# Altium integrated library Microchip Power Mgt Line Regulator.IntLib: 1014 symbols (part 10 of 22)
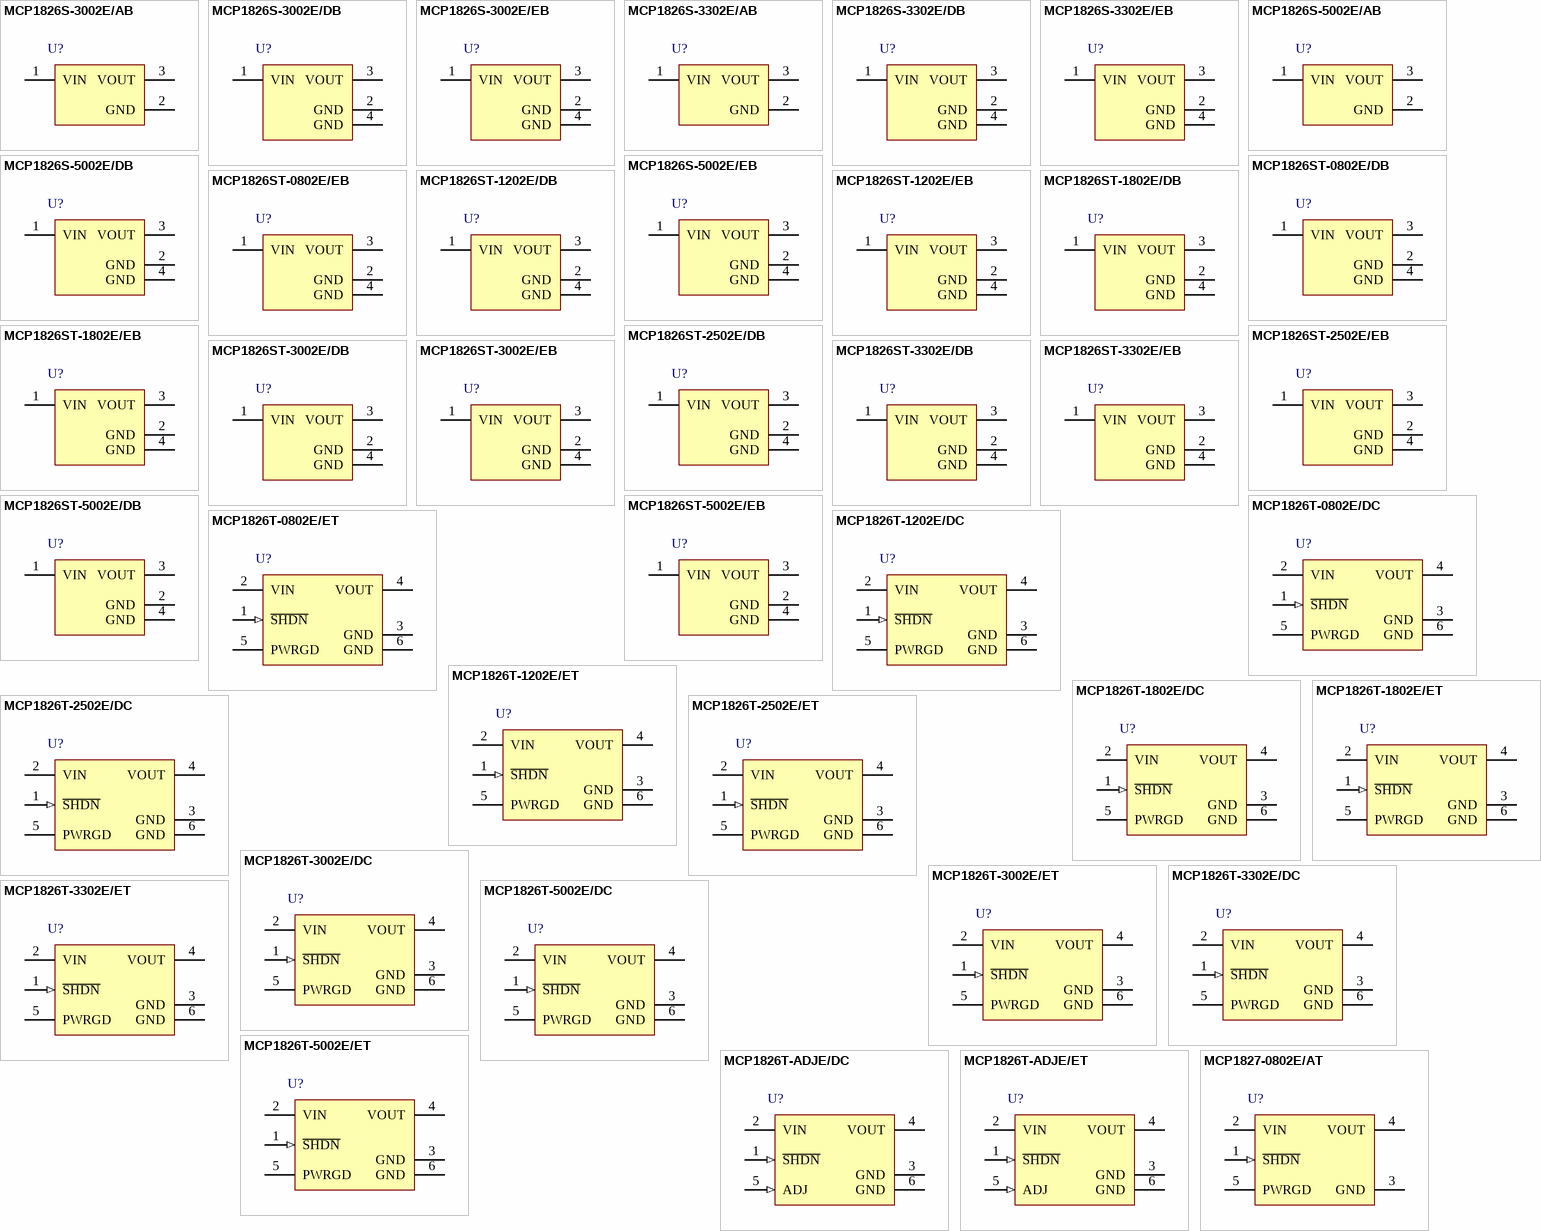
[diagram p34: symbols MCP1826S-3002E/AB to MCP1827-0802E/AT]

## MCP1826T-2502E/ET
designator U?
1000 mA, Low Voltage, Low Quiescent Current LDO Regulator, 5-Pin DDPAK, Extended Temperature, Tape and Reel; Published: 29-Jan-2009; DatasheetVersion: revA, Aug-2007; PackageVersion: revAW, Oct-2008; PackageReference: DDPAK-ET5; Publisher: Altium Limited; PackageDescription: 5-Lead Plastic (ET) [DDPAK]; ComponentLink1Description: Manufacturer Link; ComponentLink1URL: http://www.microchip.com; ComponentLink2Description: Datasheet; ComponentLink2URL: http://ww1.microchip.com/downloads/en/DeviceDoc/22057a.pdf; ComponentLink3Description: Packaging Specification; ComponentLink3URL: http://ww1.microchip.com/downloads/en/PackagingSpec/00049AW.pdf
footprint DDPAK-ET5_N (D2-PAK, 6-Leads, Body 9x10.2mm, Pitch 1.7mm, Lead Span 14.9mm, IPC Medium Density)
footprint DDPAK-ET5_L (D2-PAK, 6-Leads, Body 9x10.2mm, Pitch 1.7mm, Lead Span 14.9mm, IPC High Density)
footprint DDPAK-ET5_M (D2-PAK, 6-Leads, Body 9x10.2mm, Pitch 1.7mm, Lead Span 14.9mm, IPC Low Density)
pins: 1 ~{SHDN} (in), 2 VIN (power), 3 GND (power), 4 VOUT (power), 5 PWRGD (power), 6 GND (power)

## MCP1826T-3002E/DC
designator U?
1000 mA, Low Voltage, Low Quiescent Current LDO Regulator, 5-Pin SOT-223, Extended Temperature, Tape and Reel; Published: 29-Jan-2009; DatasheetVersion: revA, Aug-2007; PackageVersion: revAW, Oct-2008; PackageReference: SOT-223-DC5; Publisher: Altium Limited; PackageDescription: 5-Lead Plastic Small Outline Transistor (DC) [SOT-223]; ComponentLink1Description: Manufacturer Link; ComponentLink1URL: http://www.microchip.com; ComponentLink2Description: Datasheet; ComponentLink2URL: http://ww1.microchip.com/downloads/en/DeviceDoc/22057a.pdf; ComponentLink3Description: Packaging Specification; ComponentLink3URL: http://ww1.microchip.com/downloads/en/PackagingSpec/00049AW.pdf
footprint SOT-223-DC5_N (SOT223, 6-Leads, Body 6.5x3.5mm, Pitch 1.27mm, Lead Span 7mm, IPC Medium Density)
footprint SOT-223-DC5_L (SOT223, 6-Leads, Body 6.5x3.5mm, Pitch 1.27mm, Lead Span 7mm, IPC High Density)
footprint SOT-223-DC5_M (SOT223, 6-Leads, Body 6.5x3.5mm, Pitch 1.27mm, Lead Span 7mm, IPC Low Density)
pins: 1 ~{SHDN} (in), 2 VIN (power), 3 GND (power), 4 VOUT (power), 5 PWRGD (power), 6 GND (power)

## MCP1826T-3002E/ET
designator U?
1000 mA, Low Voltage, Low Quiescent Current LDO Regulator, 5-Pin DDPAK, Extended Temperature, Tape and Reel; Published: 29-Jan-2009; DatasheetVersion: revA, Aug-2007; PackageVersion: revAW, Oct-2008; PackageReference: DDPAK-ET5; Publisher: Altium Limited; PackageDescription: 5-Lead Plastic (ET) [DDPAK]; ComponentLink1Description: Manufacturer Link; ComponentLink1URL: http://www.microchip.com; ComponentLink2Description: Datasheet; ComponentLink2URL: http://ww1.microchip.com/downloads/en/DeviceDoc/22057a.pdf; ComponentLink3Description: Packaging Specification; ComponentLink3URL: http://ww1.microchip.com/downloads/en/PackagingSpec/00049AW.pdf
footprint DDPAK-ET5_N (D2-PAK, 6-Leads, Body 9x10.2mm, Pitch 1.7mm, Lead Span 14.9mm, IPC Medium Density)
footprint DDPAK-ET5_L (D2-PAK, 6-Leads, Body 9x10.2mm, Pitch 1.7mm, Lead Span 14.9mm, IPC High Density)
footprint DDPAK-ET5_M (D2-PAK, 6-Leads, Body 9x10.2mm, Pitch 1.7mm, Lead Span 14.9mm, IPC Low Density)
pins: 1 ~{SHDN} (in), 2 VIN (power), 3 GND (power), 4 VOUT (power), 5 PWRGD (power), 6 GND (power)

## MCP1826T-3302E/DC
designator U?
1000 mA, Low Voltage, Low Quiescent Current LDO Regulator, 5-Pin SOT-223, Extended Temperature, Tape and Reel; Published: 29-Jan-2009; DatasheetVersion: revA, Aug-2007; PackageVersion: revAW, Oct-2008; PackageReference: SOT-223-DC5; Publisher: Altium Limited; PackageDescription: 5-Lead Plastic Small Outline Transistor (DC) [SOT-223]; ComponentLink1Description: Manufacturer Link; ComponentLink1URL: http://www.microchip.com; ComponentLink2Description: Datasheet; ComponentLink2URL: http://ww1.microchip.com/downloads/en/DeviceDoc/22057a.pdf; ComponentLink3Description: Packaging Specification; ComponentLink3URL: http://ww1.microchip.com/downloads/en/PackagingSpec/00049AW.pdf
footprint SOT-223-DC5_N (SOT223, 6-Leads, Body 6.5x3.5mm, Pitch 1.27mm, Lead Span 7mm, IPC Medium Density)
footprint SOT-223-DC5_L (SOT223, 6-Leads, Body 6.5x3.5mm, Pitch 1.27mm, Lead Span 7mm, IPC High Density)
footprint SOT-223-DC5_M (SOT223, 6-Leads, Body 6.5x3.5mm, Pitch 1.27mm, Lead Span 7mm, IPC Low Density)
pins: 1 ~{SHDN} (in), 2 VIN (power), 3 GND (power), 4 VOUT (power), 5 PWRGD (power), 6 GND (power)

## MCP1826T-3302E/ET
designator U?
1000 mA, Low Voltage, Low Quiescent Current LDO Regulator, 5-Pin DDPAK, Extended Temperature, Tape and Reel; Published: 29-Jan-2009; DatasheetVersion: revA, Aug-2007; PackageVersion: revAW, Oct-2008; PackageReference: DDPAK-ET5; Publisher: Altium Limited; PackageDescription: 5-Lead Plastic (ET) [DDPAK]; ComponentLink1Description: Manufacturer Link; ComponentLink1URL: http://www.microchip.com; ComponentLink2Description: Datasheet; ComponentLink2URL: http://ww1.microchip.com/downloads/en/DeviceDoc/22057a.pdf; ComponentLink3Description: Packaging Specification; ComponentLink3URL: http://ww1.microchip.com/downloads/en/PackagingSpec/00049AW.pdf
footprint DDPAK-ET5_N (D2-PAK, 6-Leads, Body 9x10.2mm, Pitch 1.7mm, Lead Span 14.9mm, IPC Medium Density)
footprint DDPAK-ET5_L (D2-PAK, 6-Leads, Body 9x10.2mm, Pitch 1.7mm, Lead Span 14.9mm, IPC High Density)
footprint DDPAK-ET5_M (D2-PAK, 6-Leads, Body 9x10.2mm, Pitch 1.7mm, Lead Span 14.9mm, IPC Low Density)
pins: 1 ~{SHDN} (in), 2 VIN (power), 3 GND (power), 4 VOUT (power), 5 PWRGD (power), 6 GND (power)

## MCP1826T-5002E/DC
designator U?
1000 mA, Low Voltage, Low Quiescent Current LDO Regulator, 5-Pin SOT-223, Extended Temperature, Tape and Reel; Published: 29-Jan-2009; DatasheetVersion: revA, Aug-2007; PackageVersion: revAW, Oct-2008; PackageReference: SOT-223-DC5; Publisher: Altium Limited; PackageDescription: 5-Lead Plastic Small Outline Transistor (DC) [SOT-223]; ComponentLink1Description: Manufacturer Link; ComponentLink1URL: http://www.microchip.com; ComponentLink2Description: Datasheet; ComponentLink2URL: http://ww1.microchip.com/downloads/en/DeviceDoc/22057a.pdf; ComponentLink3Description: Packaging Specification; ComponentLink3URL: http://ww1.microchip.com/downloads/en/PackagingSpec/00049AW.pdf
footprint SOT-223-DC5_N (SOT223, 6-Leads, Body 6.5x3.5mm, Pitch 1.27mm, Lead Span 7mm, IPC Medium Density)
footprint SOT-223-DC5_L (SOT223, 6-Leads, Body 6.5x3.5mm, Pitch 1.27mm, Lead Span 7mm, IPC High Density)
footprint SOT-223-DC5_M (SOT223, 6-Leads, Body 6.5x3.5mm, Pitch 1.27mm, Lead Span 7mm, IPC Low Density)
pins: 1 ~{SHDN} (in), 2 VIN (power), 3 GND (power), 4 VOUT (power), 5 PWRGD (power), 6 GND (power)

## MCP1826T-5002E/ET
designator U?
1000 mA, Low Voltage, Low Quiescent Current LDO Regulator, 5-Pin DDPAK, Extended Temperature, Tape and Reel; Published: 29-Jan-2009; DatasheetVersion: revA, Aug-2007; PackageVersion: revAW, Oct-2008; PackageReference: DDPAK-ET5; Publisher: Altium Limited; PackageDescription: 5-Lead Plastic (ET) [DDPAK]; ComponentLink1Description: Manufacturer Link; ComponentLink1URL: http://www.microchip.com; ComponentLink2Description: Datasheet; ComponentLink2URL: http://ww1.microchip.com/downloads/en/DeviceDoc/22057a.pdf; ComponentLink3Description: Packaging Specification; ComponentLink3URL: http://ww1.microchip.com/downloads/en/PackagingSpec/00049AW.pdf
footprint DDPAK-ET5_N (D2-PAK, 6-Leads, Body 9x10.2mm, Pitch 1.7mm, Lead Span 14.9mm, IPC Medium Density)
footprint DDPAK-ET5_L (D2-PAK, 6-Leads, Body 9x10.2mm, Pitch 1.7mm, Lead Span 14.9mm, IPC High Density)
footprint DDPAK-ET5_M (D2-PAK, 6-Leads, Body 9x10.2mm, Pitch 1.7mm, Lead Span 14.9mm, IPC Low Density)
pins: 1 ~{SHDN} (in), 2 VIN (power), 3 GND (power), 4 VOUT (power), 5 PWRGD (power), 6 GND (power)

## MCP1826T-ADJE/DC
designator U?
1000 mA, Low Voltage, Low Quiescent Current LDO Regulator, 5-Pin SOT-223, Extended Temperature, Tape and Reel; Published: 29-Jan-2009; DatasheetVersion: revA, Aug-2007; PackageVersion: revAW, Oct-2008; PackageReference: SOT-223-DC5; Publisher: Altium Limited; PackageDescription: 5-Lead Plastic Small Outline Transistor (DC) [SOT-223]; ComponentLink1Description: Manufacturer Link; ComponentLink1URL: http://www.microchip.com; ComponentLink2Description: Datasheet; ComponentLink2URL: http://ww1.microchip.com/downloads/en/DeviceDoc/22057a.pdf; ComponentLink3Description: Packaging Specification; ComponentLink3URL: http://ww1.microchip.com/downloads/en/PackagingSpec/00049AW.pdf
footprint SOT-223-DC5_N (SOT223, 6-Leads, Body 6.5x3.5mm, Pitch 1.27mm, Lead Span 7mm, IPC Medium Density)
footprint SOT-223-DC5_L (SOT223, 6-Leads, Body 6.5x3.5mm, Pitch 1.27mm, Lead Span 7mm, IPC High Density)
footprint SOT-223-DC5_M (SOT223, 6-Leads, Body 6.5x3.5mm, Pitch 1.27mm, Lead Span 7mm, IPC Low Density)
pins: 1 ~{SHDN} (in), 2 VIN (power), 3 GND (power), 4 VOUT (power), 5 ADJ (in), 6 GND (power)

## MCP1826T-ADJE/ET
designator U?
1000 mA, Low Voltage, Low Quiescent Current LDO Regulator, 5-Pin DDPAK, Extended Temperature, Tape and Reel; Published: 29-Jan-2009; DatasheetVersion: revA, Aug-2007; PackageVersion: revAW, Oct-2008; PackageReference: DDPAK-ET5; Publisher: Altium Limited; PackageDescription: 5-Lead Plastic (ET) [DDPAK]; ComponentLink1Description: Manufacturer Link; ComponentLink1URL: http://www.microchip.com; ComponentLink2Description: Datasheet; ComponentLink2URL: http://ww1.microchip.com/downloads/en/DeviceDoc/22057a.pdf; ComponentLink3Description: Packaging Specification; ComponentLink3URL: http://ww1.microchip.com/downloads/en/PackagingSpec/00049AW.pdf
footprint DDPAK-ET5_N (D2-PAK, 6-Leads, Body 9x10.2mm, Pitch 1.7mm, Lead Span 14.9mm, IPC Medium Density)
footprint DDPAK-ET5_L (D2-PAK, 6-Leads, Body 9x10.2mm, Pitch 1.7mm, Lead Span 14.9mm, IPC High Density)
footprint DDPAK-ET5_M (D2-PAK, 6-Leads, Body 9x10.2mm, Pitch 1.7mm, Lead Span 14.9mm, IPC Low Density)
pins: 1 ~{SHDN} (in), 2 VIN (power), 3 GND (power), 4 VOUT (power), 5 ADJ (in), 6 GND (power)

## MCP1827-0802E/AT
designator U?
1.5A, Low Voltage, Low Quiescent Current LDO Regulator, 5-Pin TO-220, Extended Temperature; Published: 29-Jan-2009; DatasheetVersion: revC, Feb-2007; PackageVersion: revAW, Oct-2008; PackageReference: TO-220-AT5; Publisher: Altium Limited; PackageDescription: 5-Lead Plastic Transistor Outline (AT) [TO-220]; ComponentLink1Description: Manufacturer Link; ComponentLink1URL: http://www.microchip.com; ComponentLink2Description: Datasheet; ComponentLink2URL: http://ww1.microchip.com/downloads/en/DeviceDoc/22001c.pdf; ComponentLink3Description: Packaging Specification; ComponentLink3URL: http://ww1.microchip.com/downloads/en/PackagingSpec/00049AW.pdf
footprint TO-220-AT5 (TO, Thru-Hole, Vertical, Heatsink Mounted; 5 In-Line Leads; Pitch 1.70 mm)
pins: 1 ~{SHDN} (in), 2 VIN (power), 3 GND (power), 4 VOUT (power), 5 PWRGD (power)

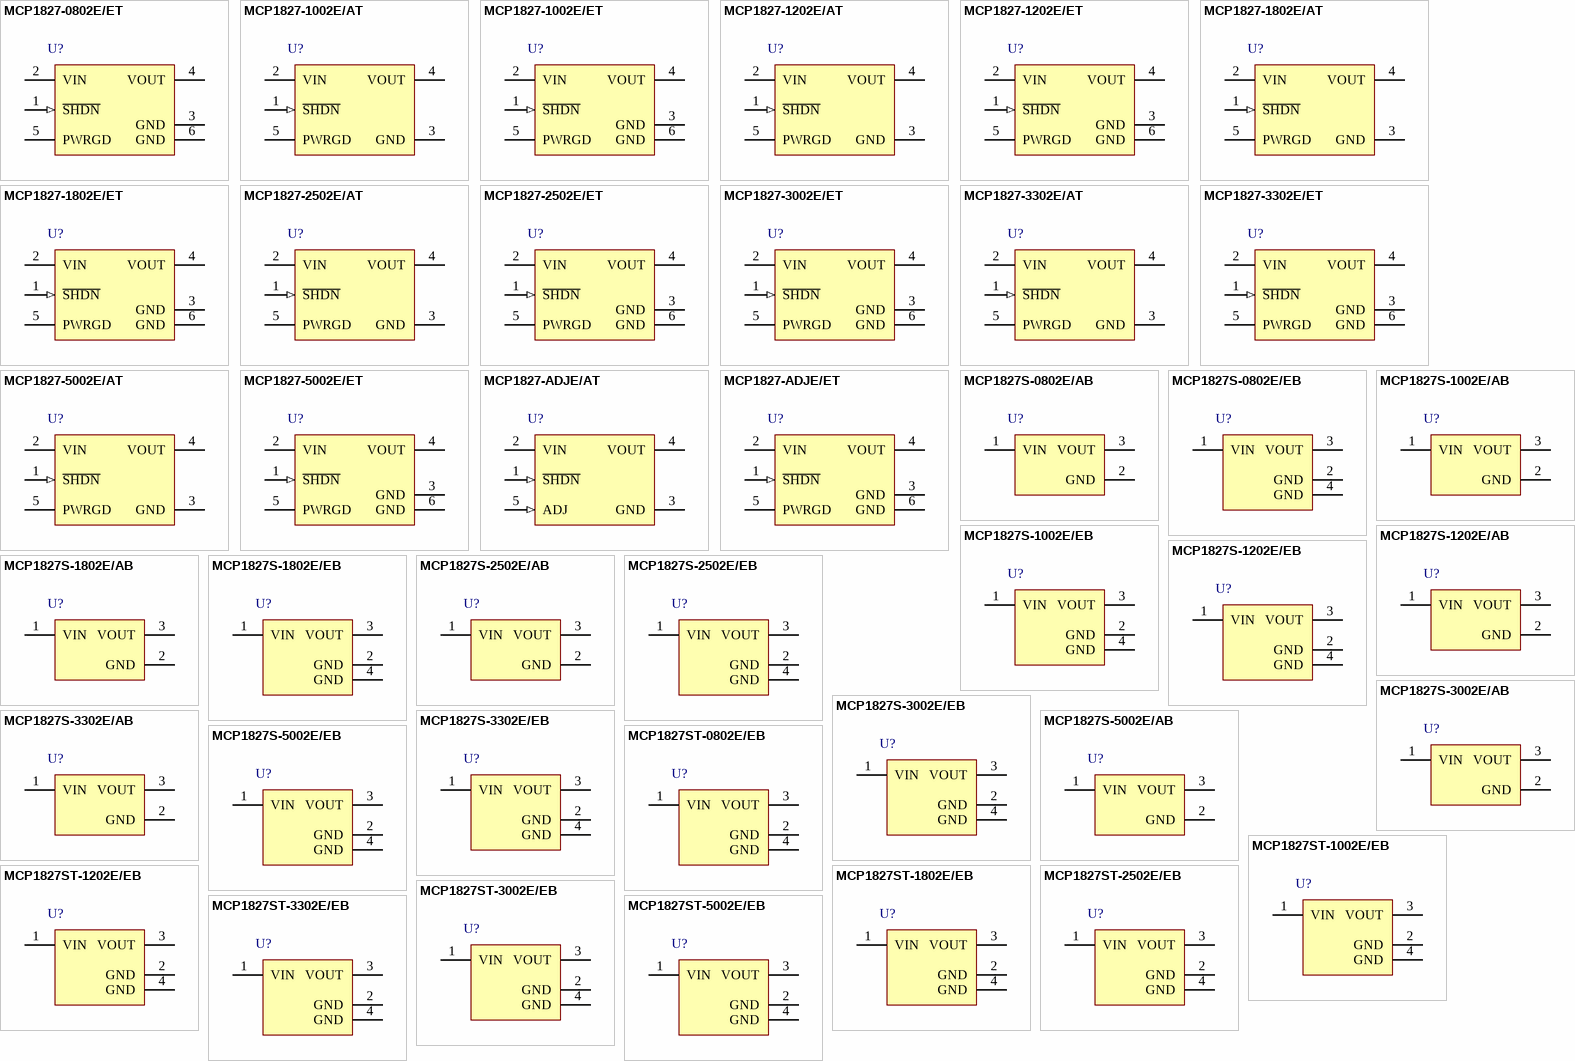
[diagram p11: symbols MCP1827-0802E/ET to MCP1827ST-5002E/EB]

## MCP1827-0802E/ET
designator U?
1.5A, Low Voltage, Low Quiescent Current LDO Regulator, 5-Pin DDPAK, Extended Temperature; Published: 29-Jan-2009; DatasheetVersion: revC, Feb-2007; PackageVersion: revAW, Oct-2008; PackageReference: DDPAK-ET5; Publisher: Altium Limited; PackageDescription: 5-Lead Plastic (ET) [DDPAK]; ComponentLink1Description: Manufacturer Link; ComponentLink1URL: http://www.microchip.com; ComponentLink2Description: Datasheet; ComponentLink2URL: http://ww1.microchip.com/downloads/en/DeviceDoc/22001c.pdf; ComponentLink3Description: Packaging Specification; ComponentLink3URL: http://ww1.microchip.com/downloads/en/PackagingSpec/00049AW.pdf
footprint DDPAK-ET5_N (D2-PAK, 6-Leads, Body 9x10.2mm, Pitch 1.7mm, Lead Span 14.9mm, IPC Medium Density)
footprint DDPAK-ET5_L (D2-PAK, 6-Leads, Body 9x10.2mm, Pitch 1.7mm, Lead Span 14.9mm, IPC High Density)
footprint DDPAK-ET5_M (D2-PAK, 6-Leads, Body 9x10.2mm, Pitch 1.7mm, Lead Span 14.9mm, IPC Low Density)
pins: 1 ~{SHDN} (in), 2 VIN (power), 3 GND (power), 4 VOUT (power), 5 PWRGD (power), 6 GND (power)

## MCP1827-1002E/AT
designator U?
1.5A, Low Voltage, Low Quiescent Current LDO Regulator, 5-Pin TO-220, Extended Temperature; Published: 29-Jan-2009; DatasheetVersion: revC, Feb-2007; PackageVersion: revAW, Oct-2008; PackageReference: TO-220-AT5; Publisher: Altium Limited; PackageDescription: 5-Lead Plastic Transistor Outline (AT) [TO-220]; ComponentLink1Description: Manufacturer Link; ComponentLink1URL: http://www.microchip.com; ComponentLink2Description: Datasheet; ComponentLink2URL: http://ww1.microchip.com/downloads/en/DeviceDoc/22001c.pdf; ComponentLink3Description: Packaging Specification; ComponentLink3URL: http://ww1.microchip.com/downloads/en/PackagingSpec/00049AW.pdf
footprint TO-220-AT5 (TO, Thru-Hole, Vertical, Heatsink Mounted; 5 In-Line Leads; Pitch 1.70 mm)
pins: 1 ~{SHDN} (in), 2 VIN (power), 3 GND (power), 4 VOUT (power), 5 PWRGD (power)

## MCP1827-1002E/ET
designator U?
1.5A, Low Voltage, Low Quiescent Current LDO Regulator, 5-Pin DDPAK, Extended Temperature; Published: 29-Jan-2009; DatasheetVersion: revC, Feb-2007; PackageVersion: revAW, Oct-2008; PackageReference: DDPAK-ET5; Publisher: Altium Limited; PackageDescription: 5-Lead Plastic (ET) [DDPAK]; ComponentLink1Description: Manufacturer Link; ComponentLink1URL: http://www.microchip.com; ComponentLink2Description: Datasheet; ComponentLink2URL: http://ww1.microchip.com/downloads/en/DeviceDoc/22001c.pdf; ComponentLink3Description: Packaging Specification; ComponentLink3URL: http://ww1.microchip.com/downloads/en/PackagingSpec/00049AW.pdf
footprint DDPAK-ET5_N (D2-PAK, 6-Leads, Body 9x10.2mm, Pitch 1.7mm, Lead Span 14.9mm, IPC Medium Density)
footprint DDPAK-ET5_L (D2-PAK, 6-Leads, Body 9x10.2mm, Pitch 1.7mm, Lead Span 14.9mm, IPC High Density)
footprint DDPAK-ET5_M (D2-PAK, 6-Leads, Body 9x10.2mm, Pitch 1.7mm, Lead Span 14.9mm, IPC Low Density)
pins: 1 ~{SHDN} (in), 2 VIN (power), 3 GND (power), 4 VOUT (power), 5 PWRGD (power), 6 GND (power)

## MCP1827-1202E/AT
designator U?
1.5A, Low Voltage, Low Quiescent Current LDO Regulator, 5-Pin TO-220, Extended Temperature; Published: 29-Jan-2009; DatasheetVersion: revC, Feb-2007; PackageVersion: revAW, Oct-2008; PackageReference: TO-220-AT5; Publisher: Altium Limited; PackageDescription: 5-Lead Plastic Transistor Outline (AT) [TO-220]; ComponentLink1Description: Manufacturer Link; ComponentLink1URL: http://www.microchip.com; ComponentLink2Description: Datasheet; ComponentLink2URL: http://ww1.microchip.com/downloads/en/DeviceDoc/22001c.pdf; ComponentLink3Description: Packaging Specification; ComponentLink3URL: http://ww1.microchip.com/downloads/en/PackagingSpec/00049AW.pdf
footprint TO-220-AT5 (TO, Thru-Hole, Vertical, Heatsink Mounted; 5 In-Line Leads; Pitch 1.70 mm)
pins: 1 ~{SHDN} (in), 2 VIN (power), 3 GND (power), 4 VOUT (power), 5 PWRGD (power)

## MCP1827-1202E/ET
designator U?
1.5A, Low Voltage, Low Quiescent Current LDO Regulator, 5-Pin DDPAK, Extended Temperature; Published: 29-Jan-2009; DatasheetVersion: revC, Feb-2007; PackageVersion: revAW, Oct-2008; PackageReference: DDPAK-ET5; Publisher: Altium Limited; PackageDescription: 5-Lead Plastic (ET) [DDPAK]; ComponentLink1Description: Manufacturer Link; ComponentLink1URL: http://www.microchip.com; ComponentLink2Description: Datasheet; ComponentLink2URL: http://ww1.microchip.com/downloads/en/DeviceDoc/22001c.pdf; ComponentLink3Description: Packaging Specification; ComponentLink3URL: http://ww1.microchip.com/downloads/en/PackagingSpec/00049AW.pdf
footprint DDPAK-ET5_N (D2-PAK, 6-Leads, Body 9x10.2mm, Pitch 1.7mm, Lead Span 14.9mm, IPC Medium Density)
footprint DDPAK-ET5_L (D2-PAK, 6-Leads, Body 9x10.2mm, Pitch 1.7mm, Lead Span 14.9mm, IPC High Density)
footprint DDPAK-ET5_M (D2-PAK, 6-Leads, Body 9x10.2mm, Pitch 1.7mm, Lead Span 14.9mm, IPC Low Density)
pins: 1 ~{SHDN} (in), 2 VIN (power), 3 GND (power), 4 VOUT (power), 5 PWRGD (power), 6 GND (power)

## MCP1827-1802E/AT
designator U?
1.5A, Low Voltage, Low Quiescent Current LDO Regulator, 5-Pin TO-220, Extended Temperature; Published: 29-Jan-2009; DatasheetVersion: revC, Feb-2007; PackageVersion: revAW, Oct-2008; PackageReference: TO-220-AT5; Publisher: Altium Limited; PackageDescription: 5-Lead Plastic Transistor Outline (AT) [TO-220]; ComponentLink1Description: Manufacturer Link; ComponentLink1URL: http://www.microchip.com; ComponentLink2Description: Datasheet; ComponentLink2URL: http://ww1.microchip.com/downloads/en/DeviceDoc/22001c.pdf; ComponentLink3Description: Packaging Specification; ComponentLink3URL: http://ww1.microchip.com/downloads/en/PackagingSpec/00049AW.pdf
footprint TO-220-AT5 (TO, Thru-Hole, Vertical, Heatsink Mounted; 5 In-Line Leads; Pitch 1.70 mm)
pins: 1 ~{SHDN} (in), 2 VIN (power), 3 GND (power), 4 VOUT (power), 5 PWRGD (power)

## MCP1827-1802E/ET
designator U?
1.5A, Low Voltage, Low Quiescent Current LDO Regulator, 5-Pin DDPAK, Extended Temperature; Published: 29-Jan-2009; DatasheetVersion: revC, Feb-2007; PackageVersion: revAW, Oct-2008; PackageReference: DDPAK-ET5; Publisher: Altium Limited; PackageDescription: 5-Lead Plastic (ET) [DDPAK]; ComponentLink1Description: Manufacturer Link; ComponentLink1URL: http://www.microchip.com; ComponentLink2Description: Datasheet; ComponentLink2URL: http://ww1.microchip.com/downloads/en/DeviceDoc/22001c.pdf; ComponentLink3Description: Packaging Specification; ComponentLink3URL: http://ww1.microchip.com/downloads/en/PackagingSpec/00049AW.pdf
footprint DDPAK-ET5_N (D2-PAK, 6-Leads, Body 9x10.2mm, Pitch 1.7mm, Lead Span 14.9mm, IPC Medium Density)
footprint DDPAK-ET5_L (D2-PAK, 6-Leads, Body 9x10.2mm, Pitch 1.7mm, Lead Span 14.9mm, IPC High Density)
footprint DDPAK-ET5_M (D2-PAK, 6-Leads, Body 9x10.2mm, Pitch 1.7mm, Lead Span 14.9mm, IPC Low Density)
pins: 1 ~{SHDN} (in), 2 VIN (power), 3 GND (power), 4 VOUT (power), 5 PWRGD (power), 6 GND (power)

## MCP1827-2502E/AT
designator U?
1.5A, Low Voltage, Low Quiescent Current LDO Regulator, 5-Pin TO-220, Extended Temperature; Published: 29-Jan-2009; DatasheetVersion: revC, Feb-2007; PackageVersion: revAW, Oct-2008; PackageReference: TO-220-AT5; Publisher: Altium Limited; PackageDescription: 5-Lead Plastic Transistor Outline (AT) [TO-220]; ComponentLink1Description: Manufacturer Link; ComponentLink1URL: http://www.microchip.com; ComponentLink2Description: Datasheet; ComponentLink2URL: http://ww1.microchip.com/downloads/en/DeviceDoc/22001c.pdf; ComponentLink3Description: Packaging Specification; ComponentLink3URL: http://ww1.microchip.com/downloads/en/PackagingSpec/00049AW.pdf
footprint TO-220-AT5 (TO, Thru-Hole, Vertical, Heatsink Mounted; 5 In-Line Leads; Pitch 1.70 mm)
pins: 1 ~{SHDN} (in), 2 VIN (power), 3 GND (power), 4 VOUT (power), 5 PWRGD (power)

## MCP1827-2502E/ET
designator U?
1.5A, Low Voltage, Low Quiescent Current LDO Regulator, 5-Pin DDPAK, Extended Temperature; Published: 29-Jan-2009; DatasheetVersion: revC, Feb-2007; PackageVersion: revAW, Oct-2008; PackageReference: DDPAK-ET5; Publisher: Altium Limited; PackageDescription: 5-Lead Plastic (ET) [DDPAK]; ComponentLink1Description: Manufacturer Link; ComponentLink1URL: http://www.microchip.com; ComponentLink2Description: Datasheet; ComponentLink2URL: http://ww1.microchip.com/downloads/en/DeviceDoc/22001c.pdf; ComponentLink3Description: Packaging Specification; ComponentLink3URL: http://ww1.microchip.com/downloads/en/PackagingSpec/00049AW.pdf
footprint DDPAK-ET5_N (D2-PAK, 6-Leads, Body 9x10.2mm, Pitch 1.7mm, Lead Span 14.9mm, IPC Medium Density)
footprint DDPAK-ET5_L (D2-PAK, 6-Leads, Body 9x10.2mm, Pitch 1.7mm, Lead Span 14.9mm, IPC High Density)
footprint DDPAK-ET5_M (D2-PAK, 6-Leads, Body 9x10.2mm, Pitch 1.7mm, Lead Span 14.9mm, IPC Low Density)
pins: 1 ~{SHDN} (in), 2 VIN (power), 3 GND (power), 4 VOUT (power), 5 PWRGD (power), 6 GND (power)

## MCP1827-3002E/ET
designator U?
1.5A, Low Voltage, Low Quiescent Current LDO Regulator, 5-Pin DDPAK, Extended Temperature; Published: 29-Jan-2009; DatasheetVersion: revC, Feb-2007; PackageVersion: revAW, Oct-2008; PackageReference: DDPAK-ET5; Publisher: Altium Limited; PackageDescription: 5-Lead Plastic (ET) [DDPAK]; ComponentLink1Description: Manufacturer Link; ComponentLink1URL: http://www.microchip.com; ComponentLink2Description: Datasheet; ComponentLink2URL: http://ww1.microchip.com/downloads/en/DeviceDoc/22001c.pdf; ComponentLink3Description: Packaging Specification; ComponentLink3URL: http://ww1.microchip.com/downloads/en/PackagingSpec/00049AW.pdf
footprint DDPAK-ET5_N (D2-PAK, 6-Leads, Body 9x10.2mm, Pitch 1.7mm, Lead Span 14.9mm, IPC Medium Density)
footprint DDPAK-ET5_L (D2-PAK, 6-Leads, Body 9x10.2mm, Pitch 1.7mm, Lead Span 14.9mm, IPC High Density)
footprint DDPAK-ET5_M (D2-PAK, 6-Leads, Body 9x10.2mm, Pitch 1.7mm, Lead Span 14.9mm, IPC Low Density)
pins: 1 ~{SHDN} (in), 2 VIN (power), 3 GND (power), 4 VOUT (power), 5 PWRGD (power), 6 GND (power)

## MCP1827-3302E/AT
designator U?
1.5A, Low Voltage, Low Quiescent Current LDO Regulator, 5-Pin TO-220, Extended Temperature; Published: 29-Jan-2009; DatasheetVersion: revC, Feb-2007; PackageVersion: revAW, Oct-2008; PackageReference: TO-220-AT5; Publisher: Altium Limited; PackageDescription: 5-Lead Plastic Transistor Outline (AT) [TO-220]; ComponentLink1Description: Manufacturer Link; ComponentLink1URL: http://www.microchip.com; ComponentLink2Description: Datasheet; ComponentLink2URL: http://ww1.microchip.com/downloads/en/DeviceDoc/22001c.pdf; ComponentLink3Description: Packaging Specification; ComponentLink3URL: http://ww1.microchip.com/downloads/en/PackagingSpec/00049AW.pdf
footprint TO-220-AT5 (TO, Thru-Hole, Vertical, Heatsink Mounted; 5 In-Line Leads; Pitch 1.70 mm)
pins: 1 ~{SHDN} (in), 2 VIN (power), 3 GND (power), 4 VOUT (power), 5 PWRGD (power)

## MCP1827-3302E/ET
designator U?
1.5A, Low Voltage, Low Quiescent Current LDO Regulator, 5-Pin DDPAK, Extended Temperature; Published: 29-Jan-2009; DatasheetVersion: revC, Feb-2007; PackageVersion: revAW, Oct-2008; PackageReference: DDPAK-ET5; Publisher: Altium Limited; PackageDescription: 5-Lead Plastic (ET) [DDPAK]; ComponentLink1Description: Manufacturer Link; ComponentLink1URL: http://www.microchip.com; ComponentLink2Description: Datasheet; ComponentLink2URL: http://ww1.microchip.com/downloads/en/DeviceDoc/22001c.pdf; ComponentLink3Description: Packaging Specification; ComponentLink3URL: http://ww1.microchip.com/downloads/en/PackagingSpec/00049AW.pdf
footprint DDPAK-ET5_N (D2-PAK, 6-Leads, Body 9x10.2mm, Pitch 1.7mm, Lead Span 14.9mm, IPC Medium Density)
footprint DDPAK-ET5_L (D2-PAK, 6-Leads, Body 9x10.2mm, Pitch 1.7mm, Lead Span 14.9mm, IPC High Density)
footprint DDPAK-ET5_M (D2-PAK, 6-Leads, Body 9x10.2mm, Pitch 1.7mm, Lead Span 14.9mm, IPC Low Density)
pins: 1 ~{SHDN} (in), 2 VIN (power), 3 GND (power), 4 VOUT (power), 5 PWRGD (power), 6 GND (power)

## MCP1827-5002E/AT
designator U?
1.5A, Low Voltage, Low Quiescent Current LDO Regulator, 5-Pin TO-220, Extended Temperature; Published: 29-Jan-2009; DatasheetVersion: revC, Feb-2007; PackageVersion: revAW, Oct-2008; PackageReference: TO-220-AT5; Publisher: Altium Limited; PackageDescription: 5-Lead Plastic Transistor Outline (AT) [TO-220]; ComponentLink1Description: Manufacturer Link; ComponentLink1URL: http://www.microchip.com; ComponentLink2Description: Datasheet; ComponentLink2URL: http://ww1.microchip.com/downloads/en/DeviceDoc/22001c.pdf; ComponentLink3Description: Packaging Specification; ComponentLink3URL: http://ww1.microchip.com/downloads/en/PackagingSpec/00049AW.pdf
footprint TO-220-AT5 (TO, Thru-Hole, Vertical, Heatsink Mounted; 5 In-Line Leads; Pitch 1.70 mm)
pins: 1 ~{SHDN} (in), 2 VIN (power), 3 GND (power), 4 VOUT (power), 5 PWRGD (power)

## MCP1827-5002E/ET
designator U?
1.5A, Low Voltage, Low Quiescent Current LDO Regulator, 5-Pin DDPAK, Extended Temperature; Published: 29-Jan-2009; DatasheetVersion: revC, Feb-2007; PackageVersion: revAW, Oct-2008; PackageReference: DDPAK-ET5; Publisher: Altium Limited; PackageDescription: 5-Lead Plastic (ET) [DDPAK]; ComponentLink1Description: Manufacturer Link; ComponentLink1URL: http://www.microchip.com; ComponentLink2Description: Datasheet; ComponentLink2URL: http://ww1.microchip.com/downloads/en/DeviceDoc/22001c.pdf; ComponentLink3Description: Packaging Specification; ComponentLink3URL: http://ww1.microchip.com/downloads/en/PackagingSpec/00049AW.pdf
footprint DDPAK-ET5_N (D2-PAK, 6-Leads, Body 9x10.2mm, Pitch 1.7mm, Lead Span 14.9mm, IPC Medium Density)
footprint DDPAK-ET5_L (D2-PAK, 6-Leads, Body 9x10.2mm, Pitch 1.7mm, Lead Span 14.9mm, IPC High Density)
footprint DDPAK-ET5_M (D2-PAK, 6-Leads, Body 9x10.2mm, Pitch 1.7mm, Lead Span 14.9mm, IPC Low Density)
pins: 1 ~{SHDN} (in), 2 VIN (power), 3 GND (power), 4 VOUT (power), 5 PWRGD (power), 6 GND (power)

## MCP1827-ADJE/AT
designator U?
1.5A, Low Voltage, Low Quiescent Current LDO Regulator, 5-Pin TO-220, Extended Temperature; Published: 29-Jan-2009; DatasheetVersion: revC, Feb-2007; PackageVersion: revAW, Oct-2008; PackageReference: TO-220-AT5; Publisher: Altium Limited; PackageDescription: 5-Lead Plastic Transistor Outline (AT) [TO-220]; ComponentLink1Description: Manufacturer Link; ComponentLink1URL: http://www.microchip.com; ComponentLink2Description: Datasheet; ComponentLink2URL: http://ww1.microchip.com/downloads/en/DeviceDoc/22001c.pdf; ComponentLink3Description: Packaging Specification; ComponentLink3URL: http://ww1.microchip.com/downloads/en/PackagingSpec/00049AW.pdf
footprint TO-220-AT5 (TO, Thru-Hole, Vertical, Heatsink Mounted; 5 In-Line Leads; Pitch 1.70 mm)
pins: 1 ~{SHDN} (in), 2 VIN (power), 3 GND (power), 4 VOUT (power), 5 ADJ (in)

## MCP1827-ADJE/ET
designator U?
1.5A, Low Voltage, Low Quiescent Current LDO Regulator, 5-Pin DDPAK, Extended Temperature; Published: 29-Jan-2009; DatasheetVersion: revC, Feb-2007; PackageVersion: revAW, Oct-2008; PackageReference: DDPAK-ET5; Publisher: Altium Limited; PackageDescription: 5-Lead Plastic (ET) [DDPAK]; ComponentLink1Description: Manufacturer Link; ComponentLink1URL: http://www.microchip.com; ComponentLink2Description: Datasheet; ComponentLink2URL: http://ww1.microchip.com/downloads/en/DeviceDoc/22001c.pdf; ComponentLink3Description: Packaging Specification; ComponentLink3URL: http://ww1.microchip.com/downloads/en/PackagingSpec/00049AW.pdf
footprint DDPAK-ET5_N (D2-PAK, 6-Leads, Body 9x10.2mm, Pitch 1.7mm, Lead Span 14.9mm, IPC Medium Density)
footprint DDPAK-ET5_L (D2-PAK, 6-Leads, Body 9x10.2mm, Pitch 1.7mm, Lead Span 14.9mm, IPC High Density)
footprint DDPAK-ET5_M (D2-PAK, 6-Leads, Body 9x10.2mm, Pitch 1.7mm, Lead Span 14.9mm, IPC Low Density)
pins: 1 ~{SHDN} (in), 2 VIN (power), 3 GND (power), 4 VOUT (power), 5 PWRGD (power), 6 GND (power)

## MCP1827S-0802E/AB
designator U?
1.5A, Low Voltage, Low Quiescent Current LDO Regulator, 3-Pin TO-220, Extended Temperature; Published: 29-Jan-2009; DatasheetVersion: revC, Feb-2007; PackageVersion: revAW, Oct-2008; PackageReference: TO-220-AB3; Publisher: Altium Limited; PackageDescription: 3-Lead Plastic Transistor Outline (AB) [TO-220]; ComponentLink1Description: Manufacturer Link; ComponentLink1URL: http://www.microchip.com; ComponentLink2Description: Datasheet; ComponentLink2URL: http://ww1.microchip.com/downloads/en/DeviceDoc/22001c.pdf; ComponentLink3Description: Packaging Specification; ComponentLink3URL: http://ww1.microchip.com/downloads/en/PackagingSpec/00049AW.pdf
footprint TO-220-AB3 (TO, Thru-Hole, Vertical, Heatsink Mounted; 3 In-Line Leads; Pitch 2.54 mm)
pins: 1 VIN (power), 2 GND (power), 3 VOUT (power)

## MCP1827S-0802E/EB
designator U?
1.5A, Low Voltage, Low Quiescent Current LDO Regulator, 3-Pin DDPAK, Extended Temperature; Published: 29-Jan-2009; DatasheetVersion: revC, Feb-2007; PackageVersion: revAW, Oct-2008; PackageReference: DDPAK-EB3; Publisher: Altium Limited; PackageDescription: 3-Lead Plastic (EB) [DDPAK]; ComponentLink1Description: Manufacturer Link; ComponentLink1URL: http://www.microchip.com; ComponentLink2Description: Datasheet; ComponentLink2URL: http://ww1.microchip.com/downloads/en/DeviceDoc/22001c.pdf; ComponentLink3Description: Packaging Specification; ComponentLink3URL: http://ww1.microchip.com/downloads/en/PackagingSpec/00049AW.pdf
footprint DDPAK-EB3_N (D2-PAK, 4-Leads, Body 9x10.2mm, Pitch 2.54mm, Lead Span 14.9mm, IPC Medium Density)
footprint DDPAK-EB3_L (D2-PAK, 4-Leads, Body 9x10.2mm, Pitch 2.54mm, Lead Span 14.9mm, IPC High Density)
footprint DDPAK-EB3_M (D2-PAK, 4-Leads, Body 9x10.2mm, Pitch 2.54mm, Lead Span 14.9mm, IPC Low Density)
pins: 1 VIN (power), 2 GND (power), 3 VOUT (power), 4 GND (power)

## MCP1827S-1002E/AB
designator U?
1.5A, Low Voltage, Low Quiescent Current LDO Regulator, 3-Pin TO-220, Extended Temperature; Published: 29-Jan-2009; DatasheetVersion: revC, Feb-2007; PackageVersion: revAW, Oct-2008; PackageReference: TO-220-AB3; Publisher: Altium Limited; PackageDescription: 3-Lead Plastic Transistor Outline (AB) [TO-220]; ComponentLink1Description: Manufacturer Link; ComponentLink1URL: http://www.microchip.com; ComponentLink2Description: Datasheet; ComponentLink2URL: http://ww1.microchip.com/downloads/en/DeviceDoc/22001c.pdf; ComponentLink3Description: Packaging Specification; ComponentLink3URL: http://ww1.microchip.com/downloads/en/PackagingSpec/00049AW.pdf
footprint TO-220-AB3 (TO, Thru-Hole, Vertical, Heatsink Mounted; 3 In-Line Leads; Pitch 2.54 mm)
pins: 1 VIN (power), 2 GND (power), 3 VOUT (power)

## MCP1827S-1002E/EB
designator U?
1.5A, Low Voltage, Low Quiescent Current LDO Regulator, 3-Pin DDPAK, Extended Temperature; Published: 29-Jan-2009; DatasheetVersion: revC, Feb-2007; PackageVersion: revAW, Oct-2008; PackageReference: DDPAK-EB3; Publisher: Altium Limited; PackageDescription: 3-Lead Plastic (EB) [DDPAK]; ComponentLink1Description: Manufacturer Link; ComponentLink1URL: http://www.microchip.com; ComponentLink2Description: Datasheet; ComponentLink2URL: http://ww1.microchip.com/downloads/en/DeviceDoc/22001c.pdf; ComponentLink3Description: Packaging Specification; ComponentLink3URL: http://ww1.microchip.com/downloads/en/PackagingSpec/00049AW.pdf
footprint DDPAK-EB3_N (D2-PAK, 4-Leads, Body 9x10.2mm, Pitch 2.54mm, Lead Span 14.9mm, IPC Medium Density)
footprint DDPAK-EB3_L (D2-PAK, 4-Leads, Body 9x10.2mm, Pitch 2.54mm, Lead Span 14.9mm, IPC High Density)
footprint DDPAK-EB3_M (D2-PAK, 4-Leads, Body 9x10.2mm, Pitch 2.54mm, Lead Span 14.9mm, IPC Low Density)
pins: 1 VIN (power), 2 GND (power), 3 VOUT (power), 4 GND (power)

## MCP1827S-1202E/AB
designator U?
1.5A, Low Voltage, Low Quiescent Current LDO Regulator, 3-Pin TO-220, Extended Temperature; Published: 29-Jan-2009; DatasheetVersion: revC, Feb-2007; PackageVersion: revAW, Oct-2008; PackageReference: TO-220-AB3; Publisher: Altium Limited; PackageDescription: 3-Lead Plastic Transistor Outline (AB) [TO-220]; ComponentLink1Description: Manufacturer Link; ComponentLink1URL: http://www.microchip.com; ComponentLink2Description: Datasheet; ComponentLink2URL: http://ww1.microchip.com/downloads/en/DeviceDoc/22001c.pdf; ComponentLink3Description: Packaging Specification; ComponentLink3URL: http://ww1.microchip.com/downloads/en/PackagingSpec/00049AW.pdf
footprint TO-220-AB3 (TO, Thru-Hole, Vertical, Heatsink Mounted; 3 In-Line Leads; Pitch 2.54 mm)
pins: 1 VIN (power), 2 GND (power), 3 VOUT (power)

## MCP1827S-1202E/EB
designator U?
1.5A, Low Voltage, Low Quiescent Current LDO Regulator, 3-Pin DDPAK, Extended Temperature; Published: 29-Jan-2009; DatasheetVersion: revC, Feb-2007; PackageVersion: revAW, Oct-2008; PackageReference: DDPAK-EB3; Publisher: Altium Limited; PackageDescription: 3-Lead Plastic (EB) [DDPAK]; ComponentLink1Description: Manufacturer Link; ComponentLink1URL: http://www.microchip.com; ComponentLink2Description: Datasheet; ComponentLink2URL: http://ww1.microchip.com/downloads/en/DeviceDoc/22001c.pdf; ComponentLink3Description: Packaging Specification; ComponentLink3URL: http://ww1.microchip.com/downloads/en/PackagingSpec/00049AW.pdf
footprint DDPAK-EB3_N (D2-PAK, 4-Leads, Body 9x10.2mm, Pitch 2.54mm, Lead Span 14.9mm, IPC Medium Density)
footprint DDPAK-EB3_L (D2-PAK, 4-Leads, Body 9x10.2mm, Pitch 2.54mm, Lead Span 14.9mm, IPC High Density)
footprint DDPAK-EB3_M (D2-PAK, 4-Leads, Body 9x10.2mm, Pitch 2.54mm, Lead Span 14.9mm, IPC Low Density)
pins: 1 VIN (power), 2 GND (power), 3 VOUT (power), 4 GND (power)

## MCP1827S-1802E/AB
designator U?
1.5A, Low Voltage, Low Quiescent Current LDO Regulator, 3-Pin TO-220, Extended Temperature; Published: 29-Jan-2009; DatasheetVersion: revC, Feb-2007; PackageVersion: revAW, Oct-2008; PackageReference: TO-220-AB3; Publisher: Altium Limited; PackageDescription: 3-Lead Plastic Transistor Outline (AB) [TO-220]; ComponentLink1Description: Manufacturer Link; ComponentLink1URL: http://www.microchip.com; ComponentLink2Description: Datasheet; ComponentLink2URL: http://ww1.microchip.com/downloads/en/DeviceDoc/22001c.pdf; ComponentLink3Description: Packaging Specification; ComponentLink3URL: http://ww1.microchip.com/downloads/en/PackagingSpec/00049AW.pdf
footprint TO-220-AB3 (TO, Thru-Hole, Vertical, Heatsink Mounted; 3 In-Line Leads; Pitch 2.54 mm)
pins: 1 VIN (power), 2 GND (power), 3 VOUT (power)

## MCP1827S-1802E/EB
designator U?
1.5A, Low Voltage, Low Quiescent Current LDO Regulator, 3-Pin DDPAK, Extended Temperature; Published: 29-Jan-2009; DatasheetVersion: revC, Feb-2007; PackageVersion: revAW, Oct-2008; PackageReference: DDPAK-EB3; Publisher: Altium Limited; PackageDescription: 3-Lead Plastic (EB) [DDPAK]; ComponentLink1Description: Manufacturer Link; ComponentLink1URL: http://www.microchip.com; ComponentLink2Description: Datasheet; ComponentLink2URL: http://ww1.microchip.com/downloads/en/DeviceDoc/22001c.pdf; ComponentLink3Description: Packaging Specification; ComponentLink3URL: http://ww1.microchip.com/downloads/en/PackagingSpec/00049AW.pdf
footprint DDPAK-EB3_N (D2-PAK, 4-Leads, Body 9x10.2mm, Pitch 2.54mm, Lead Span 14.9mm, IPC Medium Density)
footprint DDPAK-EB3_L (D2-PAK, 4-Leads, Body 9x10.2mm, Pitch 2.54mm, Lead Span 14.9mm, IPC High Density)
footprint DDPAK-EB3_M (D2-PAK, 4-Leads, Body 9x10.2mm, Pitch 2.54mm, Lead Span 14.9mm, IPC Low Density)
pins: 1 VIN (power), 2 GND (power), 3 VOUT (power), 4 GND (power)

## MCP1827S-2502E/AB
designator U?
1.5A, Low Voltage, Low Quiescent Current LDO Regulator, 3-Pin TO-220, Extended Temperature; Published: 29-Jan-2009; DatasheetVersion: revC, Feb-2007; PackageVersion: revAW, Oct-2008; PackageReference: TO-220-AB3; Publisher: Altium Limited; PackageDescription: 3-Lead Plastic Transistor Outline (AB) [TO-220]; ComponentLink1Description: Manufacturer Link; ComponentLink1URL: http://www.microchip.com; ComponentLink2Description: Datasheet; ComponentLink2URL: http://ww1.microchip.com/downloads/en/DeviceDoc/22001c.pdf; ComponentLink3Description: Packaging Specification; ComponentLink3URL: http://ww1.microchip.com/downloads/en/PackagingSpec/00049AW.pdf
footprint TO-220-AB3 (TO, Thru-Hole, Vertical, Heatsink Mounted; 3 In-Line Leads; Pitch 2.54 mm)
pins: 1 VIN (power), 2 GND (power), 3 VOUT (power)

## MCP1827S-2502E/EB
designator U?
1.5A, Low Voltage, Low Quiescent Current LDO Regulator, 3-Pin DDPAK, Extended Temperature; Published: 29-Jan-2009; DatasheetVersion: revC, Feb-2007; PackageVersion: revAW, Oct-2008; PackageReference: DDPAK-EB3; Publisher: Altium Limited; PackageDescription: 3-Lead Plastic (EB) [DDPAK]; ComponentLink1Description: Manufacturer Link; ComponentLink1URL: http://www.microchip.com; ComponentLink2Description: Datasheet; ComponentLink2URL: http://ww1.microchip.com/downloads/en/DeviceDoc/22001c.pdf; ComponentLink3Description: Packaging Specification; ComponentLink3URL: http://ww1.microchip.com/downloads/en/PackagingSpec/00049AW.pdf
footprint DDPAK-EB3_N (D2-PAK, 4-Leads, Body 9x10.2mm, Pitch 2.54mm, Lead Span 14.9mm, IPC Medium Density)
footprint DDPAK-EB3_L (D2-PAK, 4-Leads, Body 9x10.2mm, Pitch 2.54mm, Lead Span 14.9mm, IPC High Density)
footprint DDPAK-EB3_M (D2-PAK, 4-Leads, Body 9x10.2mm, Pitch 2.54mm, Lead Span 14.9mm, IPC Low Density)
pins: 1 VIN (power), 2 GND (power), 3 VOUT (power), 4 GND (power)

## MCP1827S-3002E/AB
designator U?
1.5A, Low Voltage, Low Quiescent Current LDO Regulator, 3-Pin TO-220, Extended Temperature; Published: 29-Jan-2009; DatasheetVersion: revC, Feb-2007; PackageVersion: revAW, Oct-2008; PackageReference: TO-220-AB3; Publisher: Altium Limited; PackageDescription: 3-Lead Plastic Transistor Outline (AB) [TO-220]; ComponentLink1Description: Manufacturer Link; ComponentLink1URL: http://www.microchip.com; ComponentLink2Description: Datasheet; ComponentLink2URL: http://ww1.microchip.com/downloads/en/DeviceDoc/22001c.pdf; ComponentLink3Description: Packaging Specification; ComponentLink3URL: http://ww1.microchip.com/downloads/en/PackagingSpec/00049AW.pdf
footprint TO-220-AB3 (TO, Thru-Hole, Vertical, Heatsink Mounted; 3 In-Line Leads; Pitch 2.54 mm)
pins: 1 VIN (power), 2 GND (power), 3 VOUT (power)

## MCP1827S-3002E/EB
designator U?
1.5A, Low Voltage, Low Quiescent Current LDO Regulator, 3-Pin DDPAK, Extended Temperature; Published: 29-Jan-2009; DatasheetVersion: revC, Feb-2007; PackageVersion: revAW, Oct-2008; PackageReference: DDPAK-EB3; Publisher: Altium Limited; PackageDescription: 3-Lead Plastic (EB) [DDPAK]; ComponentLink1Description: Manufacturer Link; ComponentLink1URL: http://www.microchip.com; ComponentLink2Description: Datasheet; ComponentLink2URL: http://ww1.microchip.com/downloads/en/DeviceDoc/22001c.pdf; ComponentLink3Description: Packaging Specification; ComponentLink3URL: http://ww1.microchip.com/downloads/en/PackagingSpec/00049AW.pdf
footprint DDPAK-EB3_N (D2-PAK, 4-Leads, Body 9x10.2mm, Pitch 2.54mm, Lead Span 14.9mm, IPC Medium Density)
footprint DDPAK-EB3_L (D2-PAK, 4-Leads, Body 9x10.2mm, Pitch 2.54mm, Lead Span 14.9mm, IPC High Density)
footprint DDPAK-EB3_M (D2-PAK, 4-Leads, Body 9x10.2mm, Pitch 2.54mm, Lead Span 14.9mm, IPC Low Density)
pins: 1 VIN (power), 2 GND (power), 3 VOUT (power), 4 GND (power)

## MCP1827S-3302E/AB
designator U?
1.5A, Low Voltage, Low Quiescent Current LDO Regulator, 3-Pin TO-220, Extended Temperature; Published: 29-Jan-2009; DatasheetVersion: revC, Feb-2007; PackageVersion: revAW, Oct-2008; PackageReference: TO-220-AB3; Publisher: Altium Limited; PackageDescription: 3-Lead Plastic Transistor Outline (AB) [TO-220]; ComponentLink1Description: Manufacturer Link; ComponentLink1URL: http://www.microchip.com; ComponentLink2Description: Datasheet; ComponentLink2URL: http://ww1.microchip.com/downloads/en/DeviceDoc/22001c.pdf; ComponentLink3Description: Packaging Specification; ComponentLink3URL: http://ww1.microchip.com/downloads/en/PackagingSpec/00049AW.pdf
footprint TO-220-AB3 (TO, Thru-Hole, Vertical, Heatsink Mounted; 3 In-Line Leads; Pitch 2.54 mm)
pins: 1 VIN (power), 2 GND (power), 3 VOUT (power)

## MCP1827S-3302E/EB
designator U?
1.5A, Low Voltage, Low Quiescent Current LDO Regulator, 3-Pin DDPAK, Extended Temperature; Published: 29-Jan-2009; DatasheetVersion: revC, Feb-2007; PackageVersion: revAW, Oct-2008; PackageReference: DDPAK-EB3; Publisher: Altium Limited; PackageDescription: 3-Lead Plastic (EB) [DDPAK]; ComponentLink1Description: Manufacturer Link; ComponentLink1URL: http://www.microchip.com; ComponentLink2Description: Datasheet; ComponentLink2URL: http://ww1.microchip.com/downloads/en/DeviceDoc/22001c.pdf; ComponentLink3Description: Packaging Specification; ComponentLink3URL: http://ww1.microchip.com/downloads/en/PackagingSpec/00049AW.pdf
footprint DDPAK-EB3_N (D2-PAK, 4-Leads, Body 9x10.2mm, Pitch 2.54mm, Lead Span 14.9mm, IPC Medium Density)
footprint DDPAK-EB3_L (D2-PAK, 4-Leads, Body 9x10.2mm, Pitch 2.54mm, Lead Span 14.9mm, IPC High Density)
footprint DDPAK-EB3_M (D2-PAK, 4-Leads, Body 9x10.2mm, Pitch 2.54mm, Lead Span 14.9mm, IPC Low Density)
pins: 1 VIN (power), 2 GND (power), 3 VOUT (power), 4 GND (power)

## MCP1827S-5002E/AB
designator U?
1.5A, Low Voltage, Low Quiescent Current LDO Regulator, 3-Pin TO-220, Extended Temperature; Published: 29-Jan-2009; DatasheetVersion: revC, Feb-2007; PackageVersion: revAW, Oct-2008; PackageReference: TO-220-AB3; Publisher: Altium Limited; PackageDescription: 3-Lead Plastic Transistor Outline (AB) [TO-220]; ComponentLink1Description: Manufacturer Link; ComponentLink1URL: http://www.microchip.com; ComponentLink2Description: Datasheet; ComponentLink2URL: http://ww1.microchip.com/downloads/en/DeviceDoc/22001c.pdf; ComponentLink3Description: Packaging Specification; ComponentLink3URL: http://ww1.microchip.com/downloads/en/PackagingSpec/00049AW.pdf
footprint TO-220-AB3 (TO, Thru-Hole, Vertical, Heatsink Mounted; 3 In-Line Leads; Pitch 2.54 mm)
pins: 1 VIN (power), 2 GND (power), 3 VOUT (power)

## MCP1827S-5002E/EB
designator U?
1.5A, Low Voltage, Low Quiescent Current LDO Regulator, 3-Pin DDPAK, Extended Temperature; Published: 29-Jan-2009; DatasheetVersion: revC, Feb-2007; PackageVersion: revAW, Oct-2008; PackageReference: DDPAK-EB3; Publisher: Altium Limited; PackageDescription: 3-Lead Plastic (EB) [DDPAK]; ComponentLink1Description: Manufacturer Link; ComponentLink1URL: http://www.microchip.com; ComponentLink2Description: Datasheet; ComponentLink2URL: http://ww1.microchip.com/downloads/en/DeviceDoc/22001c.pdf; ComponentLink3Description: Packaging Specification; ComponentLink3URL: http://ww1.microchip.com/downloads/en/PackagingSpec/00049AW.pdf
footprint DDPAK-EB3_N (D2-PAK, 4-Leads, Body 9x10.2mm, Pitch 2.54mm, Lead Span 14.9mm, IPC Medium Density)
footprint DDPAK-EB3_L (D2-PAK, 4-Leads, Body 9x10.2mm, Pitch 2.54mm, Lead Span 14.9mm, IPC High Density)
footprint DDPAK-EB3_M (D2-PAK, 4-Leads, Body 9x10.2mm, Pitch 2.54mm, Lead Span 14.9mm, IPC Low Density)
pins: 1 VIN (power), 2 GND (power), 3 VOUT (power), 4 GND (power)

## MCP1827ST-0802E/EB
designator U?
1.5A, Low Voltage, Low Quiescent Current LDO Regulator, 3-Pin DDPAK, Extended Temperature, Tape and Reel; Published: 29-Jan-2009; DatasheetVersion: revC, Feb-2007; PackageVersion: revAW, Oct-2008; PackageReference: DDPAK-EB3; Publisher: Altium Limited; PackageDescription: 3-Lead Plastic (EB) [DDPAK]; ComponentLink1Description: Manufacturer Link; ComponentLink1URL: http://www.microchip.com; ComponentLink2Description: Datasheet; ComponentLink2URL: http://ww1.microchip.com/downloads/en/DeviceDoc/22001c.pdf; ComponentLink3Description: Packaging Specification; ComponentLink3URL: http://ww1.microchip.com/downloads/en/PackagingSpec/00049AW.pdf
footprint DDPAK-EB3_N (D2-PAK, 4-Leads, Body 9x10.2mm, Pitch 2.54mm, Lead Span 14.9mm, IPC Medium Density)
footprint DDPAK-EB3_L (D2-PAK, 4-Leads, Body 9x10.2mm, Pitch 2.54mm, Lead Span 14.9mm, IPC High Density)
footprint DDPAK-EB3_M (D2-PAK, 4-Leads, Body 9x10.2mm, Pitch 2.54mm, Lead Span 14.9mm, IPC Low Density)
pins: 1 VIN (power), 2 GND (power), 3 VOUT (power), 4 GND (power)

## MCP1827ST-1002E/EB
designator U?
1.5A, Low Voltage, Low Quiescent Current LDO Regulator, 3-Pin DDPAK, Extended Temperature, Tape and Reel; Published: 29-Jan-2009; DatasheetVersion: revC, Feb-2007; PackageVersion: revAW, Oct-2008; PackageReference: DDPAK-EB3; Publisher: Altium Limited; PackageDescription: 3-Lead Plastic (EB) [DDPAK]; ComponentLink1Description: Manufacturer Link; ComponentLink1URL: http://www.microchip.com; ComponentLink2Description: Datasheet; ComponentLink2URL: http://ww1.microchip.com/downloads/en/DeviceDoc/22001c.pdf; ComponentLink3Description: Packaging Specification; ComponentLink3URL: http://ww1.microchip.com/downloads/en/PackagingSpec/00049AW.pdf
footprint DDPAK-EB3_N (D2-PAK, 4-Leads, Body 9x10.2mm, Pitch 2.54mm, Lead Span 14.9mm, IPC Medium Density)
footprint DDPAK-EB3_L (D2-PAK, 4-Leads, Body 9x10.2mm, Pitch 2.54mm, Lead Span 14.9mm, IPC High Density)
footprint DDPAK-EB3_M (D2-PAK, 4-Leads, Body 9x10.2mm, Pitch 2.54mm, Lead Span 14.9mm, IPC Low Density)
pins: 1 VIN (power), 2 GND (power), 3 VOUT (power), 4 GND (power)

## MCP1827ST-1202E/EB
designator U?
1.5A, Low Voltage, Low Quiescent Current LDO Regulator, 3-Pin DDPAK, Extended Temperature, Tape and Reel; Published: 29-Jan-2009; DatasheetVersion: revC, Feb-2007; PackageVersion: revAW, Oct-2008; PackageReference: DDPAK-EB3; Publisher: Altium Limited; PackageDescription: 3-Lead Plastic (EB) [DDPAK]; ComponentLink1Description: Manufacturer Link; ComponentLink1URL: http://www.microchip.com; ComponentLink2Description: Datasheet; ComponentLink2URL: http://ww1.microchip.com/downloads/en/DeviceDoc/22001c.pdf; ComponentLink3Description: Packaging Specification; ComponentLink3URL: http://ww1.microchip.com/downloads/en/PackagingSpec/00049AW.pdf
footprint DDPAK-EB3_N (D2-PAK, 4-Leads, Body 9x10.2mm, Pitch 2.54mm, Lead Span 14.9mm, IPC Medium Density)
footprint DDPAK-EB3_L (D2-PAK, 4-Leads, Body 9x10.2mm, Pitch 2.54mm, Lead Span 14.9mm, IPC High Density)
footprint DDPAK-EB3_M (D2-PAK, 4-Leads, Body 9x10.2mm, Pitch 2.54mm, Lead Span 14.9mm, IPC Low Density)
pins: 1 VIN (power), 2 GND (power), 3 VOUT (power), 4 GND (power)

## MCP1827ST-1802E/EB
designator U?
1.5A, Low Voltage, Low Quiescent Current LDO Regulator, 3-Pin DDPAK, Extended Temperature, Tape and Reel; Published: 29-Jan-2009; DatasheetVersion: revC, Feb-2007; PackageVersion: revAW, Oct-2008; PackageReference: DDPAK-EB3; Publisher: Altium Limited; PackageDescription: 3-Lead Plastic (EB) [DDPAK]; ComponentLink1Description: Manufacturer Link; ComponentLink1URL: http://www.microchip.com; ComponentLink2Description: Datasheet; ComponentLink2URL: http://ww1.microchip.com/downloads/en/DeviceDoc/22001c.pdf; ComponentLink3Description: Packaging Specification; ComponentLink3URL: http://ww1.microchip.com/downloads/en/PackagingSpec/00049AW.pdf
footprint DDPAK-EB3_N (D2-PAK, 4-Leads, Body 9x10.2mm, Pitch 2.54mm, Lead Span 14.9mm, IPC Medium Density)
footprint DDPAK-EB3_L (D2-PAK, 4-Leads, Body 9x10.2mm, Pitch 2.54mm, Lead Span 14.9mm, IPC High Density)
footprint DDPAK-EB3_M (D2-PAK, 4-Leads, Body 9x10.2mm, Pitch 2.54mm, Lead Span 14.9mm, IPC Low Density)
pins: 1 VIN (power), 2 GND (power), 3 VOUT (power), 4 GND (power)

## MCP1827ST-2502E/EB
designator U?
1.5A, Low Voltage, Low Quiescent Current LDO Regulator, 3-Pin DDPAK, Extended Temperature, Tape and Reel; Published: 29-Jan-2009; DatasheetVersion: revC, Feb-2007; PackageVersion: revAW, Oct-2008; PackageReference: DDPAK-EB3; Publisher: Altium Limited; PackageDescription: 3-Lead Plastic (EB) [DDPAK]; ComponentLink1Description: Manufacturer Link; ComponentLink1URL: http://www.microchip.com; ComponentLink2Description: Datasheet; ComponentLink2URL: http://ww1.microchip.com/downloads/en/DeviceDoc/22001c.pdf; ComponentLink3Description: Packaging Specification; ComponentLink3URL: http://ww1.microchip.com/downloads/en/PackagingSpec/00049AW.pdf
footprint DDPAK-EB3_N (D2-PAK, 4-Leads, Body 9x10.2mm, Pitch 2.54mm, Lead Span 14.9mm, IPC Medium Density)
footprint DDPAK-EB3_L (D2-PAK, 4-Leads, Body 9x10.2mm, Pitch 2.54mm, Lead Span 14.9mm, IPC High Density)
footprint DDPAK-EB3_M (D2-PAK, 4-Leads, Body 9x10.2mm, Pitch 2.54mm, Lead Span 14.9mm, IPC Low Density)
pins: 1 VIN (power), 2 GND (power), 3 VOUT (power), 4 GND (power)

## MCP1827ST-3002E/EB
designator U?
1.5A, Low Voltage, Low Quiescent Current LDO Regulator, 3-Pin DDPAK, Extended Temperature, Tape and Reel; Published: 29-Jan-2009; DatasheetVersion: revC, Feb-2007; PackageVersion: revAW, Oct-2008; PackageReference: DDPAK-EB3; Publisher: Altium Limited; PackageDescription: 3-Lead Plastic (EB) [DDPAK]; ComponentLink1Description: Manufacturer Link; ComponentLink1URL: http://www.microchip.com; ComponentLink2Description: Datasheet; ComponentLink2URL: http://ww1.microchip.com/downloads/en/DeviceDoc/22001c.pdf; ComponentLink3Description: Packaging Specification; ComponentLink3URL: http://ww1.microchip.com/downloads/en/PackagingSpec/00049AW.pdf
footprint DDPAK-EB3_N (D2-PAK, 4-Leads, Body 9x10.2mm, Pitch 2.54mm, Lead Span 14.9mm, IPC Medium Density)
footprint DDPAK-EB3_L (D2-PAK, 4-Leads, Body 9x10.2mm, Pitch 2.54mm, Lead Span 14.9mm, IPC High Density)
footprint DDPAK-EB3_M (D2-PAK, 4-Leads, Body 9x10.2mm, Pitch 2.54mm, Lead Span 14.9mm, IPC Low Density)
pins: 1 VIN (power), 2 GND (power), 3 VOUT (power), 4 GND (power)

## MCP1827ST-3302E/EB
designator U?
1.5A, Low Voltage, Low Quiescent Current LDO Regulator, 3-Pin DDPAK, Extended Temperature, Tape and Reel; Published: 29-Jan-2009; DatasheetVersion: revC, Feb-2007; PackageVersion: revAW, Oct-2008; PackageReference: DDPAK-EB3; Publisher: Altium Limited; PackageDescription: 3-Lead Plastic (EB) [DDPAK]; ComponentLink1Description: Manufacturer Link; ComponentLink1URL: http://www.microchip.com; ComponentLink2Description: Datasheet; ComponentLink2URL: http://ww1.microchip.com/downloads/en/DeviceDoc/22001c.pdf; ComponentLink3Description: Packaging Specification; ComponentLink3URL: http://ww1.microchip.com/downloads/en/PackagingSpec/00049AW.pdf
footprint DDPAK-EB3_N (D2-PAK, 4-Leads, Body 9x10.2mm, Pitch 2.54mm, Lead Span 14.9mm, IPC Medium Density)
footprint DDPAK-EB3_L (D2-PAK, 4-Leads, Body 9x10.2mm, Pitch 2.54mm, Lead Span 14.9mm, IPC High Density)
footprint DDPAK-EB3_M (D2-PAK, 4-Leads, Body 9x10.2mm, Pitch 2.54mm, Lead Span 14.9mm, IPC Low Density)
pins: 1 VIN (power), 2 GND (power), 3 VOUT (power), 4 GND (power)